# Altium schematic symbol library VCNL4040M3OE.SchLib: 1 symbol
Pins are listed as number, name and electrical type; pins without a type are passive.

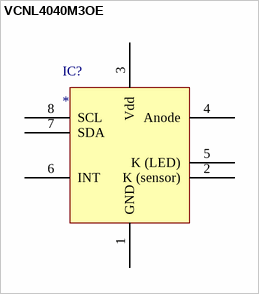
[diagram p0: symbol VCNL4040M3OE]

## VCNL4040M3OE
designator IC?
Integrated Circuit; Manufacturer_Name: Vishay; Manufacturer_Part_Number: VCNL4040M3OE; Datasheet Link: http://www.vishay.com/docs/84274/vcnl4040.pdf; Height: 1.15mm; Arrow Part Number: VCNL4040M3OE; Arrow Price/Stock: https://www.arrow.com/en/products/vcnl4040m3oe/vishay; Mouser Part Number: 78-VCNL4040M3OE; Mouser Price/Stock: https://www.mouser.co.uk/ProductDetail/Vishay-Semiconductors/VCNL4040M3OE?qs=p1ya7m3AA0C%252Buyxak4%252Bv6g%3D%3D
footprint VCNL4040M3OE
pins: 1 GND, 2 K (sensor), 3 Vdd, 4 Anode, 5 K (LED), 6 INT, 7 SDA, 8 SCL